# EAGLE library part ?8B-ZR (library con-jst-custom)
ZH CONNECTOR 1.5 mm, 4 pin 1 row Source: http://www.jst.com .. eZH.pdf
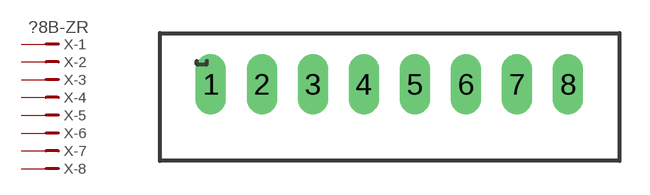
[diagram p2: symbol with the pads of B8B-ZR2.5; footprint B8B-ZR2.5]

Designator prefix X; gates -1=PM-VN -2=PM-N -3=PM-N -4=PM-N -5=PM-N -6=PM-N -7=PM-N -8=PM-N

## 8B-ZR  [B8B-ZR2.5]
1  -1:1  pas
2  -2:1  pas
3  -3:1  pas
4  -4:1  pas
5  -5:1  pas
6  -6:1  pas
7  -7:1  pas
8  -8:1  pas

## Footprint B8B-ZR2.5 (pad centres in mm)
ZH CONNECTOR Top entry type, 1.5 mm, 4 pin 1 row Source: http://www.jst.com .. eZH.pdf
drill 1 pad 1.422 long: 1 -8.905,0; 2 -6.363,0; 3 -3.823,0; 4 -1.283,0; 5 1.257,0; 6 3.797,0; 7 6.337,0; 8 8.877,0